# EAGLE library part LM3409HV (library LM3409HV)
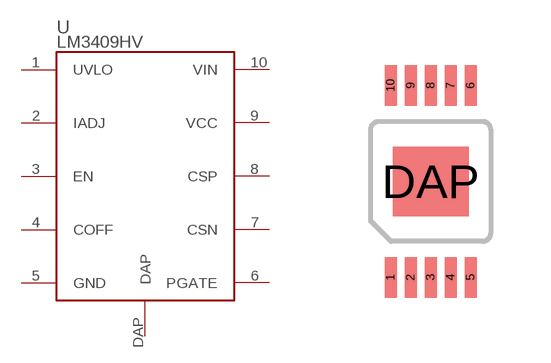
[diagram p0: symbol with the pads of 10VSSOP; footprint 10VSSOP]

Designator prefix -

## LM3409HV  [10VSSOP]
1  UVLO
2  IADJ
3  EN
4  COFF
5  GND
6  PGATE
7  CSN
8  CSP
9  VCC
10  VIN
DAP  DAP

## Footprint 10VSSOP (pad centres in mm)
smd 0.3 x 1.02: 1 -1,-2.4; 2 -0.5,-2.4; 3 0,-2.4; 4 0.5,-2.4; 5 1,-2.4; 6 1,2.4; 7 0.5,2.4; 8 0,2.4; 9 -0.5,2.4; 10 -1,2.4
smd 1.9 x 1.73: DAP 0,0